# Altium schematic symbol library D_TwoPairDiodes_Series.SchLib: 1 symbol
Pins are listed as number, name and electrical type; pins without a type are passive.

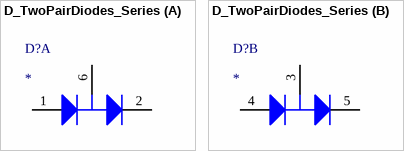
[diagram p0: symbol D_TwoPairDiodes_Series]

## D_TwoPairDiodes_Series
designator D?
part A pins: 1 A1, 2 C1, 6 AC1
part B pins: 3 AC2, 4 A2, 5 C2
1 alternate drawing of the same symbol